# Altium schematic symbol library SCH - POWER - LINEAR VREG - TI TPS7A78PWP.SchLib: 1 symbol
Pins are listed as number, name and electrical type; pins without a type are passive.

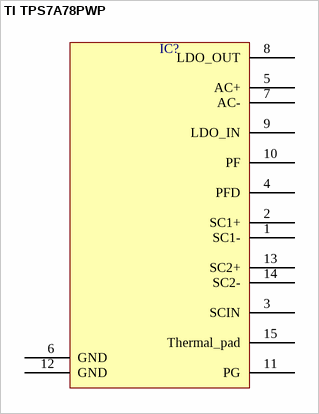
[diagram p0: symbol TI TPS7A78PWP]

## TI TPS7A78PWP
designator IC?  (value not drawn)
pins: 1 SC1-, 2 SC1+, 3 SCIN, 4 PFD, 5 AC+, 6 GND, 7 AC-, 8 LDO_OUT, 9 LDO_IN, 10 PF, 11 PG, 12 GND, 13 SC2+, 14 SC2-, 15 Thermal_pad